# Altium integrated library Renesas Diode.IntLib: 1609 symbols (part 27 of 31)
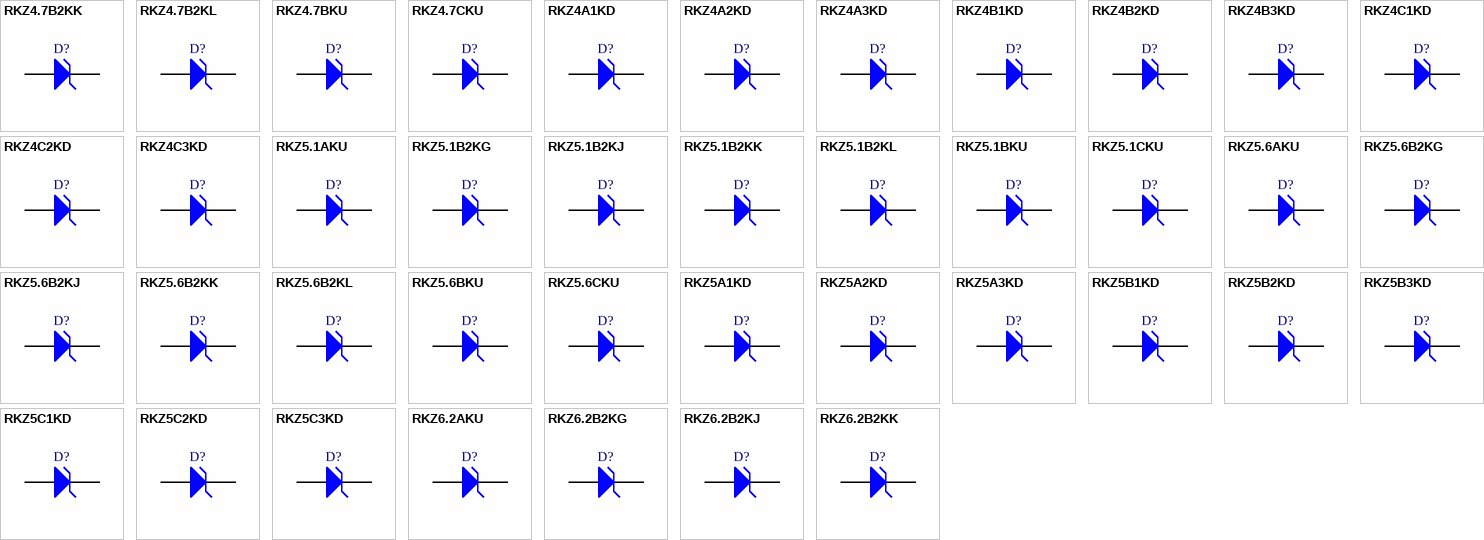
[diagram p71: symbols RKZ4.7B2KK to RKZ6.2B2KK]

## RKZ4A1KD
designator D?
Silicon Planar Zener Diode for Stabilized Power Supply; Published: 12-Feb-2010; DatasheetVersion: Rev.2.00, May-2008; PackageVersion: Aug-2005; PackageReference: GLZZ0002ZA-A; Publisher: Altium Limited; PackageDescription: Metal Electrode Face (MELF) Diode; Body 3.5 x 1.35 mm (LxDia); ComponentLink1Description: Manufacturer Link; ComponentLink1URL: http://sg.renesas.com/fmwk.jsp?cnt=diode_landing.jsp&fp=/products/discrete/diodes/; ComponentLink2Description: Datasheet; ComponentLink2URL: http://documentation.renesas.com/eng/products/diode/rej03g1264_rkz_kd.pdf; ComponentLink3Description: Packaging Specification; ComponentLink3URL: http://sg.renesas.com/media/products/common_info/package/pdf/diode/code/glzz0002za_a.pdf
footprint GLZZ0002ZA-A (Metal Electrode Face (MELF) Diode; Body 3.5 x 1.35 mm (LxDia))
signal-integrity model RKZ4A1KD
pins: 1 K, 2 A

## RKZ4A2KD
designator D?
Silicon Planar Zener Diode for Stabilized Power Supply; Published: 12-Feb-2010; DatasheetVersion: Rev.2.00, May-2008; PackageVersion: Aug-2005; PackageReference: GLZZ0002ZA-A; Publisher: Altium Limited; PackageDescription: Metal Electrode Face (MELF) Diode; Body 3.5 x 1.35 mm (LxDia); ComponentLink1Description: Manufacturer Link; ComponentLink1URL: http://sg.renesas.com/fmwk.jsp?cnt=diode_landing.jsp&fp=/products/discrete/diodes/; ComponentLink2Description: Datasheet; ComponentLink2URL: http://documentation.renesas.com/eng/products/diode/rej03g1264_rkz_kd.pdf; ComponentLink3Description: Packaging Specification; ComponentLink3URL: http://sg.renesas.com/media/products/common_info/package/pdf/diode/code/glzz0002za_a.pdf
footprint GLZZ0002ZA-A (Metal Electrode Face (MELF) Diode; Body 3.5 x 1.35 mm (LxDia))
signal-integrity model RKZ4A2KD
pins: 1 K, 2 A

## RKZ4A3KD
designator D?
Silicon Planar Zener Diode for Stabilized Power Supply; Published: 12-Feb-2010; DatasheetVersion: Rev.2.00, May-2008; PackageVersion: Aug-2005; PackageReference: GLZZ0002ZA-A; Publisher: Altium Limited; PackageDescription: Metal Electrode Face (MELF) Diode; Body 3.5 x 1.35 mm (LxDia); ComponentLink1Description: Manufacturer Link; ComponentLink1URL: http://sg.renesas.com/fmwk.jsp?cnt=diode_landing.jsp&fp=/products/discrete/diodes/; ComponentLink2Description: Datasheet; ComponentLink2URL: http://documentation.renesas.com/eng/products/diode/rej03g1264_rkz_kd.pdf; ComponentLink3Description: Packaging Specification; ComponentLink3URL: http://sg.renesas.com/media/products/common_info/package/pdf/diode/code/glzz0002za_a.pdf
footprint GLZZ0002ZA-A (Metal Electrode Face (MELF) Diode; Body 3.5 x 1.35 mm (LxDia))
signal-integrity model RKZ4A3KD
pins: 1 K, 2 A

## RKZ4B1KD
designator D?
Silicon Planar Zener Diode for Stabilized Power Supply; Published: 12-Feb-2010; DatasheetVersion: Rev.2.00, May-2008; PackageVersion: Aug-2005; PackageReference: GLZZ0002ZA-A; Publisher: Altium Limited; PackageDescription: Metal Electrode Face (MELF) Diode; Body 3.5 x 1.35 mm (LxDia); ComponentLink1Description: Manufacturer Link; ComponentLink1URL: http://sg.renesas.com/fmwk.jsp?cnt=diode_landing.jsp&fp=/products/discrete/diodes/; ComponentLink2Description: Datasheet; ComponentLink2URL: http://documentation.renesas.com/eng/products/diode/rej03g1264_rkz_kd.pdf; ComponentLink3Description: Packaging Specification; ComponentLink3URL: http://sg.renesas.com/media/products/common_info/package/pdf/diode/code/glzz0002za_a.pdf
footprint GLZZ0002ZA-A (Metal Electrode Face (MELF) Diode; Body 3.5 x 1.35 mm (LxDia))
signal-integrity model RKZ4B1KD
pins: 1 K, 2 A

## RKZ4B2KD
designator D?
Silicon Planar Zener Diode for Stabilized Power Supply; Published: 12-Feb-2010; DatasheetVersion: Rev.2.00, May-2008; PackageVersion: Aug-2005; PackageReference: GLZZ0002ZA-A; Publisher: Altium Limited; PackageDescription: Metal Electrode Face (MELF) Diode; Body 3.5 x 1.35 mm (LxDia); ComponentLink1Description: Manufacturer Link; ComponentLink1URL: http://sg.renesas.com/fmwk.jsp?cnt=diode_landing.jsp&fp=/products/discrete/diodes/; ComponentLink2Description: Datasheet; ComponentLink2URL: http://documentation.renesas.com/eng/products/diode/rej03g1264_rkz_kd.pdf; ComponentLink3Description: Packaging Specification; ComponentLink3URL: http://sg.renesas.com/media/products/common_info/package/pdf/diode/code/glzz0002za_a.pdf
footprint GLZZ0002ZA-A (Metal Electrode Face (MELF) Diode; Body 3.5 x 1.35 mm (LxDia))
signal-integrity model RKZ4B2KD
pins: 1 K, 2 A

## RKZ4B3KD
designator D?
Silicon Planar Zener Diode for Stabilized Power Supply; Published: 12-Feb-2010; DatasheetVersion: Rev.2.00, May-2008; PackageVersion: Aug-2005; PackageReference: GLZZ0002ZA-A; Publisher: Altium Limited; PackageDescription: Metal Electrode Face (MELF) Diode; Body 3.5 x 1.35 mm (LxDia); ComponentLink1Description: Manufacturer Link; ComponentLink1URL: http://sg.renesas.com/fmwk.jsp?cnt=diode_landing.jsp&fp=/products/discrete/diodes/; ComponentLink2Description: Datasheet; ComponentLink2URL: http://documentation.renesas.com/eng/products/diode/rej03g1264_rkz_kd.pdf; ComponentLink3Description: Packaging Specification; ComponentLink3URL: http://sg.renesas.com/media/products/common_info/package/pdf/diode/code/glzz0002za_a.pdf
footprint GLZZ0002ZA-A (Metal Electrode Face (MELF) Diode; Body 3.5 x 1.35 mm (LxDia))
signal-integrity model RKZ4B3KD
pins: 1 K, 2 A

## RKZ4C1KD
designator D?
Silicon Planar Zener Diode for Stabilized Power Supply; Published: 12-Feb-2010; DatasheetVersion: Rev.2.00, May-2008; PackageVersion: Aug-2005; PackageReference: GLZZ0002ZA-A; Publisher: Altium Limited; PackageDescription: Metal Electrode Face (MELF) Diode; Body 3.5 x 1.35 mm (LxDia); ComponentLink1Description: Manufacturer Link; ComponentLink1URL: http://sg.renesas.com/fmwk.jsp?cnt=diode_landing.jsp&fp=/products/discrete/diodes/; ComponentLink2Description: Datasheet; ComponentLink2URL: http://documentation.renesas.com/eng/products/diode/rej03g1264_rkz_kd.pdf; ComponentLink3Description: Packaging Specification; ComponentLink3URL: http://sg.renesas.com/media/products/common_info/package/pdf/diode/code/glzz0002za_a.pdf
footprint GLZZ0002ZA-A (Metal Electrode Face (MELF) Diode; Body 3.5 x 1.35 mm (LxDia))
signal-integrity model RKZ4C1KD
pins: 1 K, 2 A

## RKZ4C2KD
designator D?
Silicon Planar Zener Diode for Stabilized Power Supply; Published: 12-Feb-2010; DatasheetVersion: Rev.2.00, May-2008; PackageVersion: Aug-2005; PackageReference: GLZZ0002ZA-A; Publisher: Altium Limited; PackageDescription: Metal Electrode Face (MELF) Diode; Body 3.5 x 1.35 mm (LxDia); ComponentLink1Description: Manufacturer Link; ComponentLink1URL: http://sg.renesas.com/fmwk.jsp?cnt=diode_landing.jsp&fp=/products/discrete/diodes/; ComponentLink2Description: Datasheet; ComponentLink2URL: http://documentation.renesas.com/eng/products/diode/rej03g1264_rkz_kd.pdf; ComponentLink3Description: Packaging Specification; ComponentLink3URL: http://sg.renesas.com/media/products/common_info/package/pdf/diode/code/glzz0002za_a.pdf
footprint GLZZ0002ZA-A (Metal Electrode Face (MELF) Diode; Body 3.5 x 1.35 mm (LxDia))
signal-integrity model RKZ4C2KD
pins: 1 K, 2 A

## RKZ4C3KD
designator D?
Silicon Planar Zener Diode for Stabilized Power Supply; Published: 12-Feb-2010; DatasheetVersion: Rev.2.00, May-2008; PackageVersion: Aug-2005; PackageReference: GLZZ0002ZA-A; Publisher: Altium Limited; PackageDescription: Metal Electrode Face (MELF) Diode; Body 3.5 x 1.35 mm (LxDia); ComponentLink1Description: Manufacturer Link; ComponentLink1URL: http://sg.renesas.com/fmwk.jsp?cnt=diode_landing.jsp&fp=/products/discrete/diodes/; ComponentLink2Description: Datasheet; ComponentLink2URL: http://documentation.renesas.com/eng/products/diode/rej03g1264_rkz_kd.pdf; ComponentLink3Description: Packaging Specification; ComponentLink3URL: http://sg.renesas.com/media/products/common_info/package/pdf/diode/code/glzz0002za_a.pdf
footprint GLZZ0002ZA-A (Metal Electrode Face (MELF) Diode; Body 3.5 x 1.35 mm (LxDia))
signal-integrity model RKZ4C3KD
pins: 1 K, 2 A

## RKZ5.1AKU
designator D?
Silicon Planar Zener Diode for Stabilized Power Supply; Published: 12-Feb-2010; DatasheetVersion: Rev.1.00, Jul-2009; PackageVersion: Jul-2009; PackageReference: PUSF0002ZD-A; Publisher: Altium Limited; PackageDescription: 2-Pin Plastic Small Outline Diode, Flat Leads, Body 1.3 x 1.9 mm (TURP-FM); ComponentLink1Description: Manufacturer Link; ComponentLink1URL: http://sg.renesas.com/fmwk.jsp?cnt=diode_landing.jsp&fp=/products/discrete/diodes/; ComponentLink2Description: Datasheet; ComponentLink2URL: http://documentation.renesas.com/eng/products/diode/rej03g1771_rkz_kuds.pdf; ComponentLink3Description: Packaging Specification; ComponentLink3URL: http://sg.renesas.com/media/products/common_info/package/pdf/diode/code/pusf0002zd_a.pdf
footprint PUSF0002ZD-A (SOD, 2-Flat Leads, Body 1.3x1.9x0.65mm, Renesas Recommended)
signal-integrity model RKZ5.1AKU
pins: 1 K, 2 A

## RKZ5.1B2KG
designator D?
Silicon Planar Zener Diode for Surge Absorption and Stabilizer; Published: 12-Feb-2010; DatasheetVersion: Rev.3.00, Feb-2009; PackageVersion: Sep-2005; PackageReference: PTSP0002ZA-A; Publisher: Altium Limited; PackageDescription: 2-Pin SC-76 Package, 1.7 x 1.3 mm Body; Code_JEITA: SC-76A; ComponentLink1Description: Manufacturer Link; ComponentLink1URL: http://sg.renesas.com/fmwk.jsp?cnt=diode_landing.jsp&fp=/products/discrete/diodes/; ComponentLink2Description: Datasheet; ComponentLink2URL: http://documentation.renesas.com/eng/products/diode/rej03g1512_rkz_kg.pdf; ComponentLink3Description: Packaging Specification; ComponentLink3URL: http://sg.renesas.com/media/products/common_info/package/pdf/diode/code/ptsp0002za_a.pdf
footprint PTSP0002ZA-A (SC-76; 2 Leads; Body 1.7x1.3mm, Renesas Recommended)
signal-integrity model RKZ5.1B2KG
pins: 1 K, 2 A

## RKZ5.1B2KJ
designator D?
Silicon Planar Zener Diode for Surge Absorption and Stabilizer; Published: 12-Feb-2010; DatasheetVersion: Rev.1.00, Sep-2007; PackageVersion: Oct-2006; PackageReference: PWSF0002ZA-A; Publisher: Altium Limited; PackageDescription: 2-Pin Plastic Small Outline Diode, Flat Leads, Body 0.8 x 1.2 mm (UFP); Code_JEITA: SC-79; ComponentLink1Description: Manufacturer Link; ComponentLink1URL: http://sg.renesas.com/fmwk.jsp?cnt=diode_landing.jsp&fp=/products/discrete/diodes/; ComponentLink2Description: Datasheet; ComponentLink2URL: http://documentation.renesas.com/eng/products/diode/rej03g1588_rkz_kjds.pdf; ComponentLink3Description: Packaging Specification; ComponentLink3URL: http://sg.renesas.com/media/products/common_info/package/pdf/diode/code/pwsf0002za_a.pdf
footprint PWSF0002ZA-A (SOD, 2-Flat Leads, Body 0.8x1.2x0.7mm, Renesas Recommended)
signal-integrity model RKZ5.1B2KJ
pins: 1 K, 2 A

## RKZ5.1B2KK
designator D?
Silicon Planar Zener Diode for Surge Absorption and Stabilizer; Published: 12-Feb-2010; DatasheetVersion: Rev.1.00, Mar-2007; PackageVersion: Oct-2006; PackageReference: PUSF0002ZB-A; Publisher: Altium Limited; PackageDescription: 2-Pin Plastic Small Outline Diode, Flat Leads, Body 0.6 x 1.0 mm (SFP); ComponentLink1Description: Manufacturer Link; ComponentLink1URL: http://sg.renesas.com/fmwk.jsp?cnt=diode_landing.jsp&fp=/products/discrete/diodes/; ComponentLink2Description: Datasheet; ComponentLink2URL: http://documentation.renesas.com/eng/products/diode/rej03g1518_rkz_kkds.pdf; ComponentLink3Description: Packaging Specification; ComponentLink3URL: http://sg.renesas.com/media/products/common_info/package/pdf/diode/code/pusf0002zb_a.pdf
footprint PUSF0002ZB-A (SOD, 2-Flat Leads, Body 0.6x1.0x0.55mm, Renesas Recommended)
signal-integrity model RKZ5.1B2KK
pins: 1 K, 2 A

## RKZ5.1B2KL
designator D?
Silicon Planar Zener Diode for Surge Absorption and Stabilizer; Published: 12-Feb-2010; DatasheetVersion: Rev.1.00, May-2007; PackageVersion: Oct-2006; PackageReference: PXSF0002ZA-A; Publisher: Altium Limited; PackageDescription: 2-Pin Plastic Small Outline Diode, Flat Leads, Body 0.6 x 0.8 mm (EFP); ComponentLink1Description: Manufacturer Link; ComponentLink1URL: http://sg.renesas.com/fmwk.jsp?cnt=diode_landing.jsp&fp=/products/discrete/diodes/; ComponentLink2Description: Datasheet; ComponentLink2URL: http://documentation.renesas.com/eng/products/diode/rej03g1519_rkz_klds.pdf; ComponentLink3Description: Packaging Specification; ComponentLink3URL: http://sg.renesas.com/media/products/common_info/package/pdf/diode/code/pxsf0002za_a.pdf
footprint PXSF0002ZA-A (SOD, 2-Flat Leads, Body 0.6x0.8x0.5mm, Renesas Recommended)
signal-integrity model RKZ5.1B2KL
pins: 1 K, 2 A

## RKZ5.1BKU
designator D?
Silicon Planar Zener Diode for Stabilized Power Supply; Published: 12-Feb-2010; DatasheetVersion: Rev.1.00, Jul-2009; PackageVersion: Jul-2009; PackageReference: PUSF0002ZD-A; Publisher: Altium Limited; PackageDescription: 2-Pin Plastic Small Outline Diode, Flat Leads, Body 1.3 x 1.9 mm (TURP-FM); ComponentLink1Description: Manufacturer Link; ComponentLink1URL: http://sg.renesas.com/fmwk.jsp?cnt=diode_landing.jsp&fp=/products/discrete/diodes/; ComponentLink2Description: Datasheet; ComponentLink2URL: http://documentation.renesas.com/eng/products/diode/rej03g1771_rkz_kuds.pdf; ComponentLink3Description: Packaging Specification; ComponentLink3URL: http://sg.renesas.com/media/products/common_info/package/pdf/diode/code/pusf0002zd_a.pdf
footprint PUSF0002ZD-A (SOD, 2-Flat Leads, Body 1.3x1.9x0.65mm, Renesas Recommended)
signal-integrity model RKZ5.1BKU
pins: 1 K, 2 A

## RKZ5.1CKU
designator D?
Silicon Planar Zener Diode for Stabilized Power Supply; Published: 12-Feb-2010; DatasheetVersion: Rev.1.00, Jul-2009; PackageVersion: Jul-2009; PackageReference: PUSF0002ZD-A; Publisher: Altium Limited; PackageDescription: 2-Pin Plastic Small Outline Diode, Flat Leads, Body 1.3 x 1.9 mm (TURP-FM); ComponentLink1Description: Manufacturer Link; ComponentLink1URL: http://sg.renesas.com/fmwk.jsp?cnt=diode_landing.jsp&fp=/products/discrete/diodes/; ComponentLink2Description: Datasheet; ComponentLink2URL: http://documentation.renesas.com/eng/products/diode/rej03g1771_rkz_kuds.pdf; ComponentLink3Description: Packaging Specification; ComponentLink3URL: http://sg.renesas.com/media/products/common_info/package/pdf/diode/code/pusf0002zd_a.pdf
footprint PUSF0002ZD-A (SOD, 2-Flat Leads, Body 1.3x1.9x0.65mm, Renesas Recommended)
signal-integrity model RKZ5.1CKU
pins: 1 K, 2 A

## RKZ5.6AKU
designator D?
Silicon Planar Zener Diode for Stabilized Power Supply; Published: 12-Feb-2010; DatasheetVersion: Rev.1.00, Jul-2009; PackageVersion: Jul-2009; PackageReference: PUSF0002ZD-A; Publisher: Altium Limited; PackageDescription: 2-Pin Plastic Small Outline Diode, Flat Leads, Body 1.3 x 1.9 mm (TURP-FM); ComponentLink1Description: Manufacturer Link; ComponentLink1URL: http://sg.renesas.com/fmwk.jsp?cnt=diode_landing.jsp&fp=/products/discrete/diodes/; ComponentLink2Description: Datasheet; ComponentLink2URL: http://documentation.renesas.com/eng/products/diode/rej03g1771_rkz_kuds.pdf; ComponentLink3Description: Packaging Specification; ComponentLink3URL: http://sg.renesas.com/media/products/common_info/package/pdf/diode/code/pusf0002zd_a.pdf
footprint PUSF0002ZD-A (SOD, 2-Flat Leads, Body 1.3x1.9x0.65mm, Renesas Recommended)
signal-integrity model RKZ5.6AKU
pins: 1 K, 2 A

## RKZ5.6B2KG
designator D?
Silicon Planar Zener Diode for Surge Absorption and Stabilizer; Published: 12-Feb-2010; DatasheetVersion: Rev.3.00, Feb-2009; PackageVersion: Sep-2005; PackageReference: PTSP0002ZA-A; Publisher: Altium Limited; PackageDescription: 2-Pin SC-76 Package, 1.7 x 1.3 mm Body; Code_JEITA: SC-76A; ComponentLink1Description: Manufacturer Link; ComponentLink1URL: http://sg.renesas.com/fmwk.jsp?cnt=diode_landing.jsp&fp=/products/discrete/diodes/; ComponentLink2Description: Datasheet; ComponentLink2URL: http://documentation.renesas.com/eng/products/diode/rej03g1512_rkz_kg.pdf; ComponentLink3Description: Packaging Specification; ComponentLink3URL: http://sg.renesas.com/media/products/common_info/package/pdf/diode/code/ptsp0002za_a.pdf
footprint PTSP0002ZA-A (SC-76; 2 Leads; Body 1.7x1.3mm, Renesas Recommended)
signal-integrity model RKZ5.6B2KG
pins: 1 K, 2 A

## RKZ5.6B2KJ
designator D?
Silicon Planar Zener Diode for Surge Absorption and Stabilizer; Published: 12-Feb-2010; DatasheetVersion: Rev.1.00, Sep-2007; PackageVersion: Oct-2006; PackageReference: PWSF0002ZA-A; Publisher: Altium Limited; PackageDescription: 2-Pin Plastic Small Outline Diode, Flat Leads, Body 0.8 x 1.2 mm (UFP); Code_JEITA: SC-79; ComponentLink1Description: Manufacturer Link; ComponentLink1URL: http://sg.renesas.com/fmwk.jsp?cnt=diode_landing.jsp&fp=/products/discrete/diodes/; ComponentLink2Description: Datasheet; ComponentLink2URL: http://documentation.renesas.com/eng/products/diode/rej03g1588_rkz_kjds.pdf; ComponentLink3Description: Packaging Specification; ComponentLink3URL: http://sg.renesas.com/media/products/common_info/package/pdf/diode/code/pwsf0002za_a.pdf
footprint PWSF0002ZA-A (SOD, 2-Flat Leads, Body 0.8x1.2x0.7mm, Renesas Recommended)
signal-integrity model RKZ5.6B2KJ
pins: 1 K, 2 A

## RKZ5.6B2KK
designator D?
Silicon Planar Zener Diode for Surge Absorption and Stabilizer; Published: 12-Feb-2010; DatasheetVersion: Rev.1.00, Mar-2007; PackageVersion: Oct-2006; PackageReference: PUSF0002ZB-A; Publisher: Altium Limited; PackageDescription: 2-Pin Plastic Small Outline Diode, Flat Leads, Body 0.6 x 1.0 mm (SFP); ComponentLink1Description: Manufacturer Link; ComponentLink1URL: http://sg.renesas.com/fmwk.jsp?cnt=diode_landing.jsp&fp=/products/discrete/diodes/; ComponentLink2Description: Datasheet; ComponentLink2URL: http://documentation.renesas.com/eng/products/diode/rej03g1518_rkz_kkds.pdf; ComponentLink3Description: Packaging Specification; ComponentLink3URL: http://sg.renesas.com/media/products/common_info/package/pdf/diode/code/pusf0002zb_a.pdf
footprint PUSF0002ZB-A (SOD, 2-Flat Leads, Body 0.6x1.0x0.55mm, Renesas Recommended)
signal-integrity model RKZ5.6B2KK
pins: 1 K, 2 A

## RKZ5.6B2KL
designator D?
Silicon Planar Zener Diode for Surge Absorption and Stabilizer; Published: 12-Feb-2010; DatasheetVersion: Rev.1.00, May-2007; PackageVersion: Oct-2006; PackageReference: PXSF0002ZA-A; Publisher: Altium Limited; PackageDescription: 2-Pin Plastic Small Outline Diode, Flat Leads, Body 0.6 x 0.8 mm (EFP); ComponentLink1Description: Manufacturer Link; ComponentLink1URL: http://sg.renesas.com/fmwk.jsp?cnt=diode_landing.jsp&fp=/products/discrete/diodes/; ComponentLink2Description: Datasheet; ComponentLink2URL: http://documentation.renesas.com/eng/products/diode/rej03g1519_rkz_klds.pdf; ComponentLink3Description: Packaging Specification; ComponentLink3URL: http://sg.renesas.com/media/products/common_info/package/pdf/diode/code/pxsf0002za_a.pdf
footprint PXSF0002ZA-A (SOD, 2-Flat Leads, Body 0.6x0.8x0.5mm, Renesas Recommended)
signal-integrity model RKZ5.6B2KL
pins: 1 K, 2 A

## RKZ5.6BKU
designator D?
Silicon Planar Zener Diode for Stabilized Power Supply; Published: 12-Feb-2010; DatasheetVersion: Rev.1.00, Jul-2009; PackageVersion: Jul-2009; PackageReference: PUSF0002ZD-A; Publisher: Altium Limited; PackageDescription: 2-Pin Plastic Small Outline Diode, Flat Leads, Body 1.3 x 1.9 mm (TURP-FM); ComponentLink1Description: Manufacturer Link; ComponentLink1URL: http://sg.renesas.com/fmwk.jsp?cnt=diode_landing.jsp&fp=/products/discrete/diodes/; ComponentLink2Description: Datasheet; ComponentLink2URL: http://documentation.renesas.com/eng/products/diode/rej03g1771_rkz_kuds.pdf; ComponentLink3Description: Packaging Specification; ComponentLink3URL: http://sg.renesas.com/media/products/common_info/package/pdf/diode/code/pusf0002zd_a.pdf
footprint PUSF0002ZD-A (SOD, 2-Flat Leads, Body 1.3x1.9x0.65mm, Renesas Recommended)
signal-integrity model RKZ5.6BKU
pins: 1 K, 2 A

## RKZ5.6CKU
designator D?
Silicon Planar Zener Diode for Stabilized Power Supply; Published: 12-Feb-2010; DatasheetVersion: Rev.1.00, Jul-2009; PackageVersion: Jul-2009; PackageReference: PUSF0002ZD-A; Publisher: Altium Limited; PackageDescription: 2-Pin Plastic Small Outline Diode, Flat Leads, Body 1.3 x 1.9 mm (TURP-FM); ComponentLink1Description: Manufacturer Link; ComponentLink1URL: http://sg.renesas.com/fmwk.jsp?cnt=diode_landing.jsp&fp=/products/discrete/diodes/; ComponentLink2Description: Datasheet; ComponentLink2URL: http://documentation.renesas.com/eng/products/diode/rej03g1771_rkz_kuds.pdf; ComponentLink3Description: Packaging Specification; ComponentLink3URL: http://sg.renesas.com/media/products/common_info/package/pdf/diode/code/pusf0002zd_a.pdf
footprint PUSF0002ZD-A (SOD, 2-Flat Leads, Body 1.3x1.9x0.65mm, Renesas Recommended)
signal-integrity model RKZ5.6CKU
pins: 1 K, 2 A

## RKZ5A1KD
designator D?
Silicon Planar Zener Diode for Stabilized Power Supply; Published: 12-Feb-2010; DatasheetVersion: Rev.2.00, May-2008; PackageVersion: Aug-2005; PackageReference: GLZZ0002ZA-A; Publisher: Altium Limited; PackageDescription: Metal Electrode Face (MELF) Diode; Body 3.5 x 1.35 mm (LxDia); ComponentLink1Description: Manufacturer Link; ComponentLink1URL: http://sg.renesas.com/fmwk.jsp?cnt=diode_landing.jsp&fp=/products/discrete/diodes/; ComponentLink2Description: Datasheet; ComponentLink2URL: http://documentation.renesas.com/eng/products/diode/rej03g1264_rkz_kd.pdf; ComponentLink3Description: Packaging Specification; ComponentLink3URL: http://sg.renesas.com/media/products/common_info/package/pdf/diode/code/glzz0002za_a.pdf
footprint GLZZ0002ZA-A (Metal Electrode Face (MELF) Diode; Body 3.5 x 1.35 mm (LxDia))
signal-integrity model RKZ5A1KD
pins: 1 K, 2 A

## RKZ5A2KD
designator D?
Silicon Planar Zener Diode for Stabilized Power Supply; Published: 12-Feb-2010; DatasheetVersion: Rev.2.00, May-2008; PackageVersion: Aug-2005; PackageReference: GLZZ0002ZA-A; Publisher: Altium Limited; PackageDescription: Metal Electrode Face (MELF) Diode; Body 3.5 x 1.35 mm (LxDia); ComponentLink1Description: Manufacturer Link; ComponentLink1URL: http://sg.renesas.com/fmwk.jsp?cnt=diode_landing.jsp&fp=/products/discrete/diodes/; ComponentLink2Description: Datasheet; ComponentLink2URL: http://documentation.renesas.com/eng/products/diode/rej03g1264_rkz_kd.pdf; ComponentLink3Description: Packaging Specification; ComponentLink3URL: http://sg.renesas.com/media/products/common_info/package/pdf/diode/code/glzz0002za_a.pdf
footprint GLZZ0002ZA-A (Metal Electrode Face (MELF) Diode; Body 3.5 x 1.35 mm (LxDia))
signal-integrity model RKZ5A2KD
pins: 1 K, 2 A

## RKZ5A3KD
designator D?
Silicon Planar Zener Diode for Stabilized Power Supply; Published: 12-Feb-2010; DatasheetVersion: Rev.2.00, May-2008; PackageVersion: Aug-2005; PackageReference: GLZZ0002ZA-A; Publisher: Altium Limited; PackageDescription: Metal Electrode Face (MELF) Diode; Body 3.5 x 1.35 mm (LxDia); ComponentLink1Description: Manufacturer Link; ComponentLink1URL: http://sg.renesas.com/fmwk.jsp?cnt=diode_landing.jsp&fp=/products/discrete/diodes/; ComponentLink2Description: Datasheet; ComponentLink2URL: http://documentation.renesas.com/eng/products/diode/rej03g1264_rkz_kd.pdf; ComponentLink3Description: Packaging Specification; ComponentLink3URL: http://sg.renesas.com/media/products/common_info/package/pdf/diode/code/glzz0002za_a.pdf
footprint GLZZ0002ZA-A (Metal Electrode Face (MELF) Diode; Body 3.5 x 1.35 mm (LxDia))
signal-integrity model RKZ5A3KD
pins: 1 K, 2 A

## RKZ5B1KD
designator D?
Silicon Planar Zener Diode for Stabilized Power Supply; Published: 12-Feb-2010; DatasheetVersion: Rev.2.00, May-2008; PackageVersion: Aug-2005; PackageReference: GLZZ0002ZA-A; Publisher: Altium Limited; PackageDescription: Metal Electrode Face (MELF) Diode; Body 3.5 x 1.35 mm (LxDia); ComponentLink1Description: Manufacturer Link; ComponentLink1URL: http://sg.renesas.com/fmwk.jsp?cnt=diode_landing.jsp&fp=/products/discrete/diodes/; ComponentLink2Description: Datasheet; ComponentLink2URL: http://documentation.renesas.com/eng/products/diode/rej03g1264_rkz_kd.pdf; ComponentLink3Description: Packaging Specification; ComponentLink3URL: http://sg.renesas.com/media/products/common_info/package/pdf/diode/code/glzz0002za_a.pdf
footprint GLZZ0002ZA-A (Metal Electrode Face (MELF) Diode; Body 3.5 x 1.35 mm (LxDia))
signal-integrity model RKZ5B1KD
pins: 1 K, 2 A

## RKZ5B2KD
designator D?
Silicon Planar Zener Diode for Stabilized Power Supply; Published: 12-Feb-2010; DatasheetVersion: Rev.2.00, May-2008; PackageVersion: Aug-2005; PackageReference: GLZZ0002ZA-A; Publisher: Altium Limited; PackageDescription: Metal Electrode Face (MELF) Diode; Body 3.5 x 1.35 mm (LxDia); ComponentLink1Description: Manufacturer Link; ComponentLink1URL: http://sg.renesas.com/fmwk.jsp?cnt=diode_landing.jsp&fp=/products/discrete/diodes/; ComponentLink2Description: Datasheet; ComponentLink2URL: http://documentation.renesas.com/eng/products/diode/rej03g1264_rkz_kd.pdf; ComponentLink3Description: Packaging Specification; ComponentLink3URL: http://sg.renesas.com/media/products/common_info/package/pdf/diode/code/glzz0002za_a.pdf
footprint GLZZ0002ZA-A (Metal Electrode Face (MELF) Diode; Body 3.5 x 1.35 mm (LxDia))
signal-integrity model RKZ5B2KD
pins: 1 K, 2 A

## RKZ5B3KD
designator D?
Silicon Planar Zener Diode for Stabilized Power Supply; Published: 12-Feb-2010; DatasheetVersion: Rev.2.00, May-2008; PackageVersion: Aug-2005; PackageReference: GLZZ0002ZA-A; Publisher: Altium Limited; PackageDescription: Metal Electrode Face (MELF) Diode; Body 3.5 x 1.35 mm (LxDia); ComponentLink1Description: Manufacturer Link; ComponentLink1URL: http://sg.renesas.com/fmwk.jsp?cnt=diode_landing.jsp&fp=/products/discrete/diodes/; ComponentLink2Description: Datasheet; ComponentLink2URL: http://documentation.renesas.com/eng/products/diode/rej03g1264_rkz_kd.pdf; ComponentLink3Description: Packaging Specification; ComponentLink3URL: http://sg.renesas.com/media/products/common_info/package/pdf/diode/code/glzz0002za_a.pdf
footprint GLZZ0002ZA-A (Metal Electrode Face (MELF) Diode; Body 3.5 x 1.35 mm (LxDia))
signal-integrity model RKZ5B3KD
pins: 1 K, 2 A

## RKZ5C1KD
designator D?
Silicon Planar Zener Diode for Stabilized Power Supply; Published: 12-Feb-2010; DatasheetVersion: Rev.2.00, May-2008; PackageVersion: Aug-2005; PackageReference: GLZZ0002ZA-A; Publisher: Altium Limited; PackageDescription: Metal Electrode Face (MELF) Diode; Body 3.5 x 1.35 mm (LxDia); ComponentLink1Description: Manufacturer Link; ComponentLink1URL: http://sg.renesas.com/fmwk.jsp?cnt=diode_landing.jsp&fp=/products/discrete/diodes/; ComponentLink2Description: Datasheet; ComponentLink2URL: http://documentation.renesas.com/eng/products/diode/rej03g1264_rkz_kd.pdf; ComponentLink3Description: Packaging Specification; ComponentLink3URL: http://sg.renesas.com/media/products/common_info/package/pdf/diode/code/glzz0002za_a.pdf
footprint GLZZ0002ZA-A (Metal Electrode Face (MELF) Diode; Body 3.5 x 1.35 mm (LxDia))
signal-integrity model RKZ5C1KD
pins: 1 K, 2 A

## RKZ5C2KD
designator D?
Silicon Planar Zener Diode for Stabilized Power Supply; Published: 12-Feb-2010; DatasheetVersion: Rev.2.00, May-2008; PackageVersion: Aug-2005; PackageReference: GLZZ0002ZA-A; Publisher: Altium Limited; PackageDescription: Metal Electrode Face (MELF) Diode; Body 3.5 x 1.35 mm (LxDia); ComponentLink1Description: Manufacturer Link; ComponentLink1URL: http://sg.renesas.com/fmwk.jsp?cnt=diode_landing.jsp&fp=/products/discrete/diodes/; ComponentLink2Description: Datasheet; ComponentLink2URL: http://documentation.renesas.com/eng/products/diode/rej03g1264_rkz_kd.pdf; ComponentLink3Description: Packaging Specification; ComponentLink3URL: http://sg.renesas.com/media/products/common_info/package/pdf/diode/code/glzz0002za_a.pdf
footprint GLZZ0002ZA-A (Metal Electrode Face (MELF) Diode; Body 3.5 x 1.35 mm (LxDia))
signal-integrity model RKZ5C2KD
pins: 1 K, 2 A

## RKZ5C3KD
designator D?
Silicon Planar Zener Diode for Stabilized Power Supply; Published: 12-Feb-2010; DatasheetVersion: Rev.2.00, May-2008; PackageVersion: Aug-2005; PackageReference: GLZZ0002ZA-A; Publisher: Altium Limited; PackageDescription: Metal Electrode Face (MELF) Diode; Body 3.5 x 1.35 mm (LxDia); ComponentLink1Description: Manufacturer Link; ComponentLink1URL: http://sg.renesas.com/fmwk.jsp?cnt=diode_landing.jsp&fp=/products/discrete/diodes/; ComponentLink2Description: Datasheet; ComponentLink2URL: http://documentation.renesas.com/eng/products/diode/rej03g1264_rkz_kd.pdf; ComponentLink3Description: Packaging Specification; ComponentLink3URL: http://sg.renesas.com/media/products/common_info/package/pdf/diode/code/glzz0002za_a.pdf
footprint GLZZ0002ZA-A (Metal Electrode Face (MELF) Diode; Body 3.5 x 1.35 mm (LxDia))
signal-integrity model RKZ5C3KD
pins: 1 K, 2 A

## RKZ6.2AKU
designator D?
Silicon Planar Zener Diode for Stabilized Power Supply; Published: 12-Feb-2010; DatasheetVersion: Rev.1.00, Jul-2009; PackageVersion: Jul-2009; PackageReference: PUSF0002ZD-A; Publisher: Altium Limited; PackageDescription: 2-Pin Plastic Small Outline Diode, Flat Leads, Body 1.3 x 1.9 mm (TURP-FM); ComponentLink1Description: Manufacturer Link; ComponentLink1URL: http://sg.renesas.com/fmwk.jsp?cnt=diode_landing.jsp&fp=/products/discrete/diodes/; ComponentLink2Description: Datasheet; ComponentLink2URL: http://documentation.renesas.com/eng/products/diode/rej03g1771_rkz_kuds.pdf; ComponentLink3Description: Packaging Specification; ComponentLink3URL: http://sg.renesas.com/media/products/common_info/package/pdf/diode/code/pusf0002zd_a.pdf
footprint PUSF0002ZD-A (SOD, 2-Flat Leads, Body 1.3x1.9x0.65mm, Renesas Recommended)
signal-integrity model RKZ6.2AKU
pins: 1 K, 2 A

## RKZ6.2B2KG
designator D?
Silicon Planar Zener Diode for Surge Absorption and Stabilizer; Published: 12-Feb-2010; DatasheetVersion: Rev.3.00, Feb-2009; PackageVersion: Sep-2005; PackageReference: PTSP0002ZA-A; Publisher: Altium Limited; PackageDescription: 2-Pin SC-76 Package, 1.7 x 1.3 mm Body; Code_JEITA: SC-76A; ComponentLink1Description: Manufacturer Link; ComponentLink1URL: http://sg.renesas.com/fmwk.jsp?cnt=diode_landing.jsp&fp=/products/discrete/diodes/; ComponentLink2Description: Datasheet; ComponentLink2URL: http://documentation.renesas.com/eng/products/diode/rej03g1512_rkz_kg.pdf; ComponentLink3Description: Packaging Specification; ComponentLink3URL: http://sg.renesas.com/media/products/common_info/package/pdf/diode/code/ptsp0002za_a.pdf
footprint PTSP0002ZA-A (SC-76; 2 Leads; Body 1.7x1.3mm, Renesas Recommended)
signal-integrity model RKZ6.2B2KG
pins: 1 K, 2 A

## RKZ6.2B2KJ
designator D?
Silicon Planar Zener Diode for Surge Absorption and Stabilizer; Published: 12-Feb-2010; DatasheetVersion: Rev.1.00, Sep-2007; PackageVersion: Oct-2006; PackageReference: PWSF0002ZA-A; Publisher: Altium Limited; PackageDescription: 2-Pin Plastic Small Outline Diode, Flat Leads, Body 0.8 x 1.2 mm (UFP); Code_JEITA: SC-79; ComponentLink1Description: Manufacturer Link; ComponentLink1URL: http://sg.renesas.com/fmwk.jsp?cnt=diode_landing.jsp&fp=/products/discrete/diodes/; ComponentLink2Description: Datasheet; ComponentLink2URL: http://documentation.renesas.com/eng/products/diode/rej03g1588_rkz_kjds.pdf; ComponentLink3Description: Packaging Specification; ComponentLink3URL: http://sg.renesas.com/media/products/common_info/package/pdf/diode/code/pwsf0002za_a.pdf
footprint PWSF0002ZA-A (SOD, 2-Flat Leads, Body 0.8x1.2x0.7mm, Renesas Recommended)
signal-integrity model RKZ6.2B2KJ
pins: 1 K, 2 A

## RKZ6.2B2KK
designator D?
Silicon Planar Zener Diode for Surge Absorption and Stabilizer; Published: 12-Feb-2010; DatasheetVersion: Rev.1.00, Mar-2007; PackageVersion: Oct-2006; PackageReference: PUSF0002ZB-A; Publisher: Altium Limited; PackageDescription: 2-Pin Plastic Small Outline Diode, Flat Leads, Body 0.6 x 1.0 mm (SFP); ComponentLink1Description: Manufacturer Link; ComponentLink1URL: http://sg.renesas.com/fmwk.jsp?cnt=diode_landing.jsp&fp=/products/discrete/diodes/; ComponentLink2Description: Datasheet; ComponentLink2URL: http://documentation.renesas.com/eng/products/diode/rej03g1518_rkz_kkds.pdf; ComponentLink3Description: Packaging Specification; ComponentLink3URL: http://sg.renesas.com/media/products/common_info/package/pdf/diode/code/pusf0002zb_a.pdf
footprint PUSF0002ZB-A (SOD, 2-Flat Leads, Body 0.6x1.0x0.55mm, Renesas Recommended)
signal-integrity model RKZ6.2B2KK
pins: 1 K, 2 A

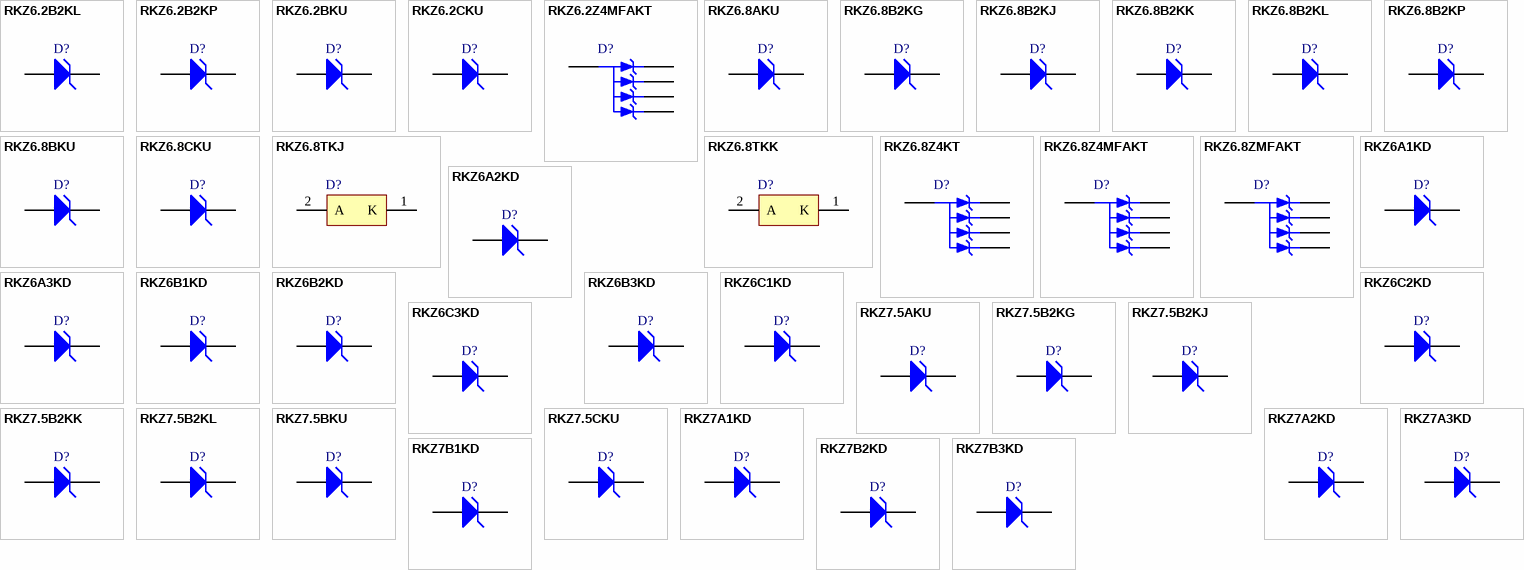
[diagram p40: symbols RKZ6.2B2KL to RKZ7B3KD]

## RKZ6.2B2KL
designator D?
Silicon Planar Zener Diode for Surge Absorption and Stabilizer; Published: 12-Feb-2010; DatasheetVersion: Rev.1.00, May-2007; PackageVersion: Oct-2006; PackageReference: PXSF0002ZA-A; Publisher: Altium Limited; PackageDescription: 2-Pin Plastic Small Outline Diode, Flat Leads, Body 0.6 x 0.8 mm (EFP); ComponentLink1Description: Manufacturer Link; ComponentLink1URL: http://sg.renesas.com/fmwk.jsp?cnt=diode_landing.jsp&fp=/products/discrete/diodes/; ComponentLink2Description: Datasheet; ComponentLink2URL: http://documentation.renesas.com/eng/products/diode/rej03g1519_rkz_klds.pdf; ComponentLink3Description: Packaging Specification; ComponentLink3URL: http://sg.renesas.com/media/products/common_info/package/pdf/diode/code/pxsf0002za_a.pdf
footprint PXSF0002ZA-A (SOD, 2-Flat Leads, Body 0.6x0.8x0.5mm, Renesas Recommended)
signal-integrity model RKZ6.2B2KL
pins: 1 K, 2 A

## RKZ6.2B2KP
designator D?
Silicon Planar Zener Diode for Surge Absorption; Published: 12-Feb-2010; DatasheetVersion: Rev.1.00, Aug-2008; PackageVersion: Jul-2006; PackageReference: PXSN0002ZB-A; Publisher: Altium Limited; PackageDescription: Chip Diode 0201 Case Size; ComponentLink1Description: Manufacturer Link; ComponentLink1URL: http://sg.renesas.com/fmwk.jsp?cnt=diode_landing.jsp&fp=/products/discrete/diodes/; ComponentLink2Description: Datasheet; ComponentLink2URL: http://documentation.renesas.com/eng/products/diode/rej03g1728_rkz_kpds.pdf; ComponentLink3Description: Packaging Specification; ComponentLink3URL: http://sg.renesas.com/media/products/common_info/package/pdf/diode/code/pxsn0002zb_a.pdf
footprint PXSN0002ZB-A_V (Chip Diode; Body 0.62x0.32mm, Renesas Recommended)
footprint PXSN0002ZB-A_N (Chip Diode; Body 0.62x0.32mm, IPC Medium Density)
footprint PXSN0002ZB-A_L (Chip Diode; Body 0.62x0.32mm, IPC High Density)
footprint PXSN0002ZB-A_M (Chip Diode; Body 0.62x0.32mm, IPC Low Density)
signal-integrity model RKZ6.2B2KP
pins: 1 K, 2 A

## RKZ6.2BKU
designator D?
Silicon Planar Zener Diode for Stabilized Power Supply; Published: 12-Feb-2010; DatasheetVersion: Rev.1.00, Jul-2009; PackageVersion: Jul-2009; PackageReference: PUSF0002ZD-A; Publisher: Altium Limited; PackageDescription: 2-Pin Plastic Small Outline Diode, Flat Leads, Body 1.3 x 1.9 mm (TURP-FM); ComponentLink1Description: Manufacturer Link; ComponentLink1URL: http://sg.renesas.com/fmwk.jsp?cnt=diode_landing.jsp&fp=/products/discrete/diodes/; ComponentLink2Description: Datasheet; ComponentLink2URL: http://documentation.renesas.com/eng/products/diode/rej03g1771_rkz_kuds.pdf; ComponentLink3Description: Packaging Specification; ComponentLink3URL: http://sg.renesas.com/media/products/common_info/package/pdf/diode/code/pusf0002zd_a.pdf
footprint PUSF0002ZD-A (SOD, 2-Flat Leads, Body 1.3x1.9x0.65mm, Renesas Recommended)
signal-integrity model RKZ6.2BKU
pins: 1 K, 2 A

## RKZ6.2CKU
designator D?
Silicon Planar Zener Diode for Stabilized Power Supply; Published: 12-Feb-2010; DatasheetVersion: Rev.1.00, Jul-2009; PackageVersion: Jul-2009; PackageReference: PUSF0002ZD-A; Publisher: Altium Limited; PackageDescription: 2-Pin Plastic Small Outline Diode, Flat Leads, Body 1.3 x 1.9 mm (TURP-FM); ComponentLink1Description: Manufacturer Link; ComponentLink1URL: http://sg.renesas.com/fmwk.jsp?cnt=diode_landing.jsp&fp=/products/discrete/diodes/; ComponentLink2Description: Datasheet; ComponentLink2URL: http://documentation.renesas.com/eng/products/diode/rej03g1771_rkz_kuds.pdf; ComponentLink3Description: Packaging Specification; ComponentLink3URL: http://sg.renesas.com/media/products/common_info/package/pdf/diode/code/pusf0002zd_a.pdf
footprint PUSF0002ZD-A (SOD, 2-Flat Leads, Body 1.3x1.9x0.65mm, Renesas Recommended)
signal-integrity model RKZ6.2CKU
pins: 1 K, 2 A

## RKZ6.2Z4MFAKT
designator D?
Silicon Planar Zener Diode for Surge Absorption; Published: 12-Feb-2010; DatasheetVersion: Rev.1.00, Feb-2006; PackageVersion: Jul-2006; PackageReference: PUSN0005KB-A; Publisher: Altium Limited; PackageDescription: 5-Pin Dual Lead-Flat Package 0.5 mm Pitch (VSON-5); ComponentLink1Description: Manufacturer Link; ComponentLink1URL: http://sg.renesas.com/fmwk.jsp?cnt=diode_landing.jsp&fp=/products/discrete/diodes/; ComponentLink2Description: Datasheet; ComponentLink2URL: http://documentation.renesas.com/eng/products/diode/rej03g1349_rkz62z4mfakt.pdf; ComponentLink3Description: Packaging Specification; ComponentLink3URL: http://sg.renesas.com/media/products/common_info/package/pdf/diode/code/pusn0005kb_a.pdf
footprint PUSN0005KB-A (SOP, 5-Flat Leads, Body 1.6x1.2x0.55mm, Pitch 0.5mm, Renesas Recommended)
signal-integrity model RKZ6.2Z4MFAKT
pins: 1 K1, 2 K2, 3 K3, 4 A, 5 K4

## RKZ6.8AKU
designator D?
Silicon Planar Zener Diode for Stabilized Power Supply; Published: 12-Feb-2010; DatasheetVersion: Rev.1.00, Jul-2009; PackageVersion: Jul-2009; PackageReference: PUSF0002ZD-A; Publisher: Altium Limited; PackageDescription: 2-Pin Plastic Small Outline Diode, Flat Leads, Body 1.3 x 1.9 mm (TURP-FM); ComponentLink1Description: Manufacturer Link; ComponentLink1URL: http://sg.renesas.com/fmwk.jsp?cnt=diode_landing.jsp&fp=/products/discrete/diodes/; ComponentLink2Description: Datasheet; ComponentLink2URL: http://documentation.renesas.com/eng/products/diode/rej03g1771_rkz_kuds.pdf; ComponentLink3Description: Packaging Specification; ComponentLink3URL: http://sg.renesas.com/media/products/common_info/package/pdf/diode/code/pusf0002zd_a.pdf
footprint PUSF0002ZD-A (SOD, 2-Flat Leads, Body 1.3x1.9x0.65mm, Renesas Recommended)
signal-integrity model RKZ6.8AKU
pins: 1 K, 2 A

## RKZ6.8B2KG
designator D?
Silicon Planar Zener Diode for Surge Absorption and Stabilizer; Published: 12-Feb-2010; DatasheetVersion: Rev.3.00, Feb-2009; PackageVersion: Sep-2005; PackageReference: PTSP0002ZA-A; Publisher: Altium Limited; PackageDescription: 2-Pin SC-76 Package, 1.7 x 1.3 mm Body; Code_JEITA: SC-76A; ComponentLink1Description: Manufacturer Link; ComponentLink1URL: http://sg.renesas.com/fmwk.jsp?cnt=diode_landing.jsp&fp=/products/discrete/diodes/; ComponentLink2Description: Datasheet; ComponentLink2URL: http://documentation.renesas.com/eng/products/diode/rej03g1512_rkz_kg.pdf; ComponentLink3Description: Packaging Specification; ComponentLink3URL: http://sg.renesas.com/media/products/common_info/package/pdf/diode/code/ptsp0002za_a.pdf
footprint PTSP0002ZA-A (SC-76; 2 Leads; Body 1.7x1.3mm, Renesas Recommended)
signal-integrity model RKZ6.8B2KG
pins: 1 K, 2 A

## RKZ6.8B2KJ
designator D?
Silicon Planar Zener Diode for Surge Absorption and Stabilizer; Published: 12-Feb-2010; DatasheetVersion: Rev.1.00, Sep-2007; PackageVersion: Oct-2006; PackageReference: PWSF0002ZA-A; Publisher: Altium Limited; PackageDescription: 2-Pin Plastic Small Outline Diode, Flat Leads, Body 0.8 x 1.2 mm (UFP); Code_JEITA: SC-79; ComponentLink1Description: Manufacturer Link; ComponentLink1URL: http://sg.renesas.com/fmwk.jsp?cnt=diode_landing.jsp&fp=/products/discrete/diodes/; ComponentLink2Description: Datasheet; ComponentLink2URL: http://documentation.renesas.com/eng/products/diode/rej03g1588_rkz_kjds.pdf; ComponentLink3Description: Packaging Specification; ComponentLink3URL: http://sg.renesas.com/media/products/common_info/package/pdf/diode/code/pwsf0002za_a.pdf
footprint PWSF0002ZA-A (SOD, 2-Flat Leads, Body 0.8x1.2x0.7mm, Renesas Recommended)
signal-integrity model RKZ6.8B2KJ
pins: 1 K, 2 A

## RKZ6.8B2KK
designator D?
Silicon Planar Zener Diode for Surge Absorption and Stabilizer; Published: 12-Feb-2010; DatasheetVersion: Rev.1.00, Mar-2007; PackageVersion: Oct-2006; PackageReference: PUSF0002ZB-A; Publisher: Altium Limited; PackageDescription: 2-Pin Plastic Small Outline Diode, Flat Leads, Body 0.6 x 1.0 mm (SFP); ComponentLink1Description: Manufacturer Link; ComponentLink1URL: http://sg.renesas.com/fmwk.jsp?cnt=diode_landing.jsp&fp=/products/discrete/diodes/; ComponentLink2Description: Datasheet; ComponentLink2URL: http://documentation.renesas.com/eng/products/diode/rej03g1518_rkz_kkds.pdf; ComponentLink3Description: Packaging Specification; ComponentLink3URL: http://sg.renesas.com/media/products/common_info/package/pdf/diode/code/pusf0002zb_a.pdf
footprint PUSF0002ZB-A (SOD, 2-Flat Leads, Body 0.6x1.0x0.55mm, Renesas Recommended)
signal-integrity model RKZ6.8B2KK
pins: 1 K, 2 A

## RKZ6.8B2KL
designator D?
Silicon Planar Zener Diode for Surge Absorption and Stabilizer; Published: 12-Feb-2010; DatasheetVersion: Rev.1.00, May-2007; PackageVersion: Oct-2006; PackageReference: PXSF0002ZA-A; Publisher: Altium Limited; PackageDescription: 2-Pin Plastic Small Outline Diode, Flat Leads, Body 0.6 x 0.8 mm (EFP); ComponentLink1Description: Manufacturer Link; ComponentLink1URL: http://sg.renesas.com/fmwk.jsp?cnt=diode_landing.jsp&fp=/products/discrete/diodes/; ComponentLink2Description: Datasheet; ComponentLink2URL: http://documentation.renesas.com/eng/products/diode/rej03g1519_rkz_klds.pdf; ComponentLink3Description: Packaging Specification; ComponentLink3URL: http://sg.renesas.com/media/products/common_info/package/pdf/diode/code/pxsf0002za_a.pdf
footprint PXSF0002ZA-A (SOD, 2-Flat Leads, Body 0.6x0.8x0.5mm, Renesas Recommended)
signal-integrity model RKZ6.8B2KL
pins: 1 K, 2 A

## RKZ6.8B2KP
designator D?
Silicon Planar Zener Diode for Surge Absorption; Published: 12-Feb-2010; DatasheetVersion: Rev.1.00, Aug-2008; PackageVersion: Jul-2006; PackageReference: PXSN0002ZB-A; Publisher: Altium Limited; PackageDescription: Chip Diode 0201 Case Size; ComponentLink1Description: Manufacturer Link; ComponentLink1URL: http://sg.renesas.com/fmwk.jsp?cnt=diode_landing.jsp&fp=/products/discrete/diodes/; ComponentLink2Description: Datasheet; ComponentLink2URL: http://documentation.renesas.com/eng/products/diode/rej03g1728_rkz_kpds.pdf; ComponentLink3Description: Packaging Specification; ComponentLink3URL: http://sg.renesas.com/media/products/common_info/package/pdf/diode/code/pxsn0002zb_a.pdf
footprint PXSN0002ZB-A_V (Chip Diode; Body 0.62x0.32mm, Renesas Recommended)
footprint PXSN0002ZB-A_N (Chip Diode; Body 0.62x0.32mm, IPC Medium Density)
footprint PXSN0002ZB-A_L (Chip Diode; Body 0.62x0.32mm, IPC High Density)
footprint PXSN0002ZB-A_M (Chip Diode; Body 0.62x0.32mm, IPC Low Density)
signal-integrity model RKZ6.8B2KP
pins: 1 K, 2 A

## RKZ6.8BKU
designator D?
Silicon Planar Zener Diode for Stabilized Power Supply; Published: 12-Feb-2010; DatasheetVersion: Rev.1.00, Jul-2009; PackageVersion: Jul-2009; PackageReference: PUSF0002ZD-A; Publisher: Altium Limited; PackageDescription: 2-Pin Plastic Small Outline Diode, Flat Leads, Body 1.3 x 1.9 mm (TURP-FM); ComponentLink1Description: Manufacturer Link; ComponentLink1URL: http://sg.renesas.com/fmwk.jsp?cnt=diode_landing.jsp&fp=/products/discrete/diodes/; ComponentLink2Description: Datasheet; ComponentLink2URL: http://documentation.renesas.com/eng/products/diode/rej03g1771_rkz_kuds.pdf; ComponentLink3Description: Packaging Specification; ComponentLink3URL: http://sg.renesas.com/media/products/common_info/package/pdf/diode/code/pusf0002zd_a.pdf
footprint PUSF0002ZD-A (SOD, 2-Flat Leads, Body 1.3x1.9x0.65mm, Renesas Recommended)
signal-integrity model RKZ6.8BKU
pins: 1 K, 2 A

## RKZ6.8CKU
designator D?
Silicon Planar Zener Diode for Stabilized Power Supply; Published: 12-Feb-2010; DatasheetVersion: Rev.1.00, Jul-2009; PackageVersion: Jul-2009; PackageReference: PUSF0002ZD-A; Publisher: Altium Limited; PackageDescription: 2-Pin Plastic Small Outline Diode, Flat Leads, Body 1.3 x 1.9 mm (TURP-FM); ComponentLink1Description: Manufacturer Link; ComponentLink1URL: http://sg.renesas.com/fmwk.jsp?cnt=diode_landing.jsp&fp=/products/discrete/diodes/; ComponentLink2Description: Datasheet; ComponentLink2URL: http://documentation.renesas.com/eng/products/diode/rej03g1771_rkz_kuds.pdf; ComponentLink3Description: Packaging Specification; ComponentLink3URL: http://sg.renesas.com/media/products/common_info/package/pdf/diode/code/pusf0002zd_a.pdf
footprint PUSF0002ZD-A (SOD, 2-Flat Leads, Body 1.3x1.9x0.65mm, Renesas Recommended)
signal-integrity model RKZ6.8CKU
pins: 1 K, 2 A

## RKZ6.8TKJ
designator D?
Silicon Planar Zener Diode for Bidirectional Surge Absorption; Published: 12-Feb-2010; DatasheetVersion: Rev.2.00, May-2006; PackageVersion: Oct-2006; PackageReference: PWSF0002ZA-A; Publisher: Altium Limited; PackageDescription: 2-Pin Plastic Small Outline Diode, Flat Leads, Body 0.8 x 1.2 mm (UFP); Code_JEITA: SC-79; ComponentLink1Description: Manufacturer Link; ComponentLink1URL: http://sg.renesas.com/fmwk.jsp?cnt=diode_landing.jsp&fp=/products/discrete/diodes/; ComponentLink2Description: Datasheet; ComponentLink2URL: http://documentation.renesas.com/eng/products/logic/rej03g1300_rkz68tkj.pdf; ComponentLink3Description: Packaging Specification; ComponentLink3URL: http://sg.renesas.com/media/products/common_info/package/pdf/diode/code/pwsf0002za_a.pdf
footprint PWSF0002ZA-A (SOD, 2-Flat Leads, Body 0.8x1.2x0.7mm, Renesas Recommended)
signal-integrity model RKZ6.8TKJ
pins: 1 K, 2 A

## RKZ6.8TKK
designator D?
Silicon Planar Zener Diode for Bidirectional Surge Absorption; Published: 12-Feb-2010; DatasheetVersion: Rev.2.00, May-2006; PackageVersion: Oct-2006; PackageReference: PUSF0002ZB-A; Publisher: Altium Limited; PackageDescription: 2-Pin Plastic Small Outline Diode, Flat Leads, Body 0.6 x 1.0 mm (SFP); ComponentLink1Description: Manufacturer Link; ComponentLink1URL: http://sg.renesas.com/fmwk.jsp?cnt=diode_landing.jsp&fp=/products/discrete/diodes/; ComponentLink2Description: Datasheet; ComponentLink2URL: http://documentation.renesas.com/eng/products/logic/rej03g1310_rkz68tkk.pdf; ComponentLink3Description: Packaging Specification; ComponentLink3URL: http://sg.renesas.com/media/products/common_info/package/pdf/diode/code/pusf0002zb_a.pdf
footprint PUSF0002ZB-A (SOD, 2-Flat Leads, Body 0.6x1.0x0.55mm, Renesas Recommended)
signal-integrity model RKZ6.8TKK
pins: 1 K, 2 A

## RKZ6.8Z4KT
designator D?
Silicon Planar Zener Diode for Surge Absorption; Published: 12-Feb-2010; DatasheetVersion: Rev.1.00, Sep-2009; PackageVersion: Jul-2006; PackageReference: PUSN0005KB-A; Publisher: Altium Limited; PackageDescription: 5-Pin Dual Lead-Flat Package 0.5 mm Pitch (VSON-5); ComponentLink1Description: Manufacturer Link; ComponentLink1URL: http://sg.renesas.com/fmwk.jsp?cnt=diode_landing.jsp&fp=/products/discrete/diodes/; ComponentLink2Description: Datasheet; ComponentLink2URL: http://documentation.renesas.com/eng/products/diode/rej03g1820_rkz68z4ktds.pdf; ComponentLink3Description: Packaging Specification; ComponentLink3URL: http://sg.renesas.com/media/products/common_info/package/pdf/diode/code/pusn0005kb_a.pdf
footprint PUSN0005KB-A (SOP, 5-Flat Leads, Body 1.6x1.2x0.55mm, Pitch 0.5mm, Renesas Recommended)
signal-integrity model RKZ6.8Z4KT
pins: 1 K1, 2 K2, 3 K3, 4 A, 5 K4

## RKZ6.8Z4MFAKT
designator D?
Silicon Planar Zener Diode for Surge Absorption; Published: 12-Feb-2010; DatasheetVersion: Rev.1.00, Feb-2006; PackageVersion: Jul-2006; PackageReference: PUSN0005KB-A; Publisher: Altium Limited; PackageDescription: 5-Pin Dual Lead-Flat Package 0.5 mm Pitch (VSON-5); ComponentLink1Description: Manufacturer Link; ComponentLink1URL: http://sg.renesas.com/fmwk.jsp?cnt=diode_landing.jsp&fp=/products/discrete/diodes/; ComponentLink2Description: Datasheet; ComponentLink2URL: http://documentation.renesas.com/eng/products/diode/rej03g1351_rkz68z4mfakt.pdf; ComponentLink3Description: Packaging Specification; ComponentLink3URL: http://sg.renesas.com/media/products/common_info/package/pdf/diode/code/pusn0005kb_a.pdf
footprint PUSN0005KB-A (SOP, 5-Flat Leads, Body 1.6x1.2x0.55mm, Pitch 0.5mm, Renesas Recommended)
signal-integrity model RKZ6.8Z4MFAKT
pins: 1 K1, 2 K2, 3 K3, 4 A, 5 K4

## RKZ6.8ZMFAKT
designator D?
Silicon Planar Zener Diode for Surge Absorption; Published: 12-Feb-2010; DatasheetVersion: Rev.1.00, Feb-2006; PackageVersion: Jul-2006; PackageReference: PUSN0005KB-A; Publisher: Altium Limited; PackageDescription: 5-Pin Dual Lead-Flat Package 0.5 mm Pitch (VSON-5); ComponentLink1Description: Manufacturer Link; ComponentLink1URL: http://sg.renesas.com/fmwk.jsp?cnt=diode_landing.jsp&fp=/products/discrete/diodes/; ComponentLink2Description: Datasheet; ComponentLink2URL: http://documentation.renesas.com/eng/products/diode/rej03g1350_rkz68zmfakt.pdf; ComponentLink3Description: Packaging Specification; ComponentLink3URL: http://sg.renesas.com/media/products/common_info/package/pdf/diode/code/pusn0005kb_a.pdf
footprint PUSN0005KB-A (SOP, 5-Flat Leads, Body 1.6x1.2x0.55mm, Pitch 0.5mm, Renesas Recommended)
signal-integrity model RKZ6.8ZMFAKT
pins: 1 K1, 2 K2, 3 K3, 4 A, 5 K4

## RKZ6A1KD
designator D?
Silicon Planar Zener Diode for Stabilized Power Supply; Published: 12-Feb-2010; DatasheetVersion: Rev.2.00, May-2008; PackageVersion: Aug-2005; PackageReference: GLZZ0002ZA-A; Publisher: Altium Limited; PackageDescription: Metal Electrode Face (MELF) Diode; Body 3.5 x 1.35 mm (LxDia); ComponentLink1Description: Manufacturer Link; ComponentLink1URL: http://sg.renesas.com/fmwk.jsp?cnt=diode_landing.jsp&fp=/products/discrete/diodes/; ComponentLink2Description: Datasheet; ComponentLink2URL: http://documentation.renesas.com/eng/products/diode/rej03g1264_rkz_kd.pdf; ComponentLink3Description: Packaging Specification; ComponentLink3URL: http://sg.renesas.com/media/products/common_info/package/pdf/diode/code/glzz0002za_a.pdf
footprint GLZZ0002ZA-A (Metal Electrode Face (MELF) Diode; Body 3.5 x 1.35 mm (LxDia))
signal-integrity model RKZ6A1KD
pins: 1 K, 2 A